# EAGLE library part MEM2075-00-140-01-A (library MEM2075-00-140-01-A)
Micro SD Memory Card Connector, 1.4mm Profile SMT, Push-Push, with Normally open Switch
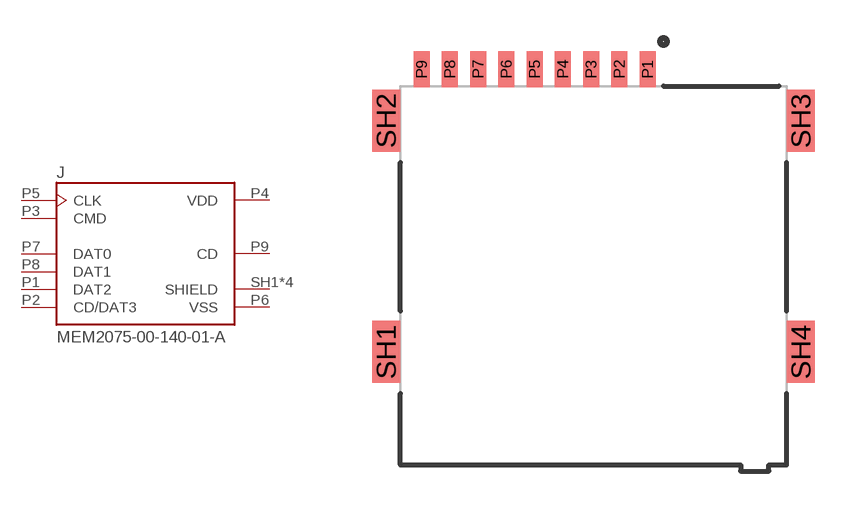
[diagram p0: symbol with the pads of GCT_MEM2075-00-140-01-A; footprint GCT_MEM2075-00-140-01-A]

Designator prefix J

## MEM2075-00-140-01-A (AVAILABILITY: Unavailable; MF: Global Connector Technology; MP: MEM2075-00-140-01-A; PACKAGE: Package Analog Devices; PRICE: None)  [GCT_MEM2075-00-140-01-A]
P1  DAT2
P2  CD/DAT3
P3  CMD
P4  VDD  pwr
P5  CLK
P6  VSS  pwr
P7  DAT0
P8  DAT1
P9  CD  pas
SH1  SHIELD  pwr
SH2  SHIELD  pwr
SH3  SHIELD  pwr
SH4  SHIELD  pwr

## Footprint GCT_MEM2075-00-140-01-A (pad centres in mm)
smd 0.62 x 1.4: P1 2.58,11.42; P2 1.48,11.42; P3 0.38,11.42; P4 -0.72,11.42; P5 -1.82,11.42; P6 -2.92,11.42; P7 -4.02,11.42; P8 -5.12,11.42; P9 -6.22,11.42
smd 1.1 x 2.4: SH1 -7.6,0.42; SH2 -7.6,9.42; SH3 8.55,9.42; SH4 8.55,0.42